# Altium footprint library 1-10V_PIR_V1.0.PcbLib: 6 footprints
Each footprint in its own frame and in the unit in brackets; x right, y up, seen from the top. Pads: shape width x height; smd on the part's side, far side on the other; paste and mask are expansions set on the pad; w line width, h text height; cw(c..) or ccw(c..) is an arc to the next point about the centre after c.
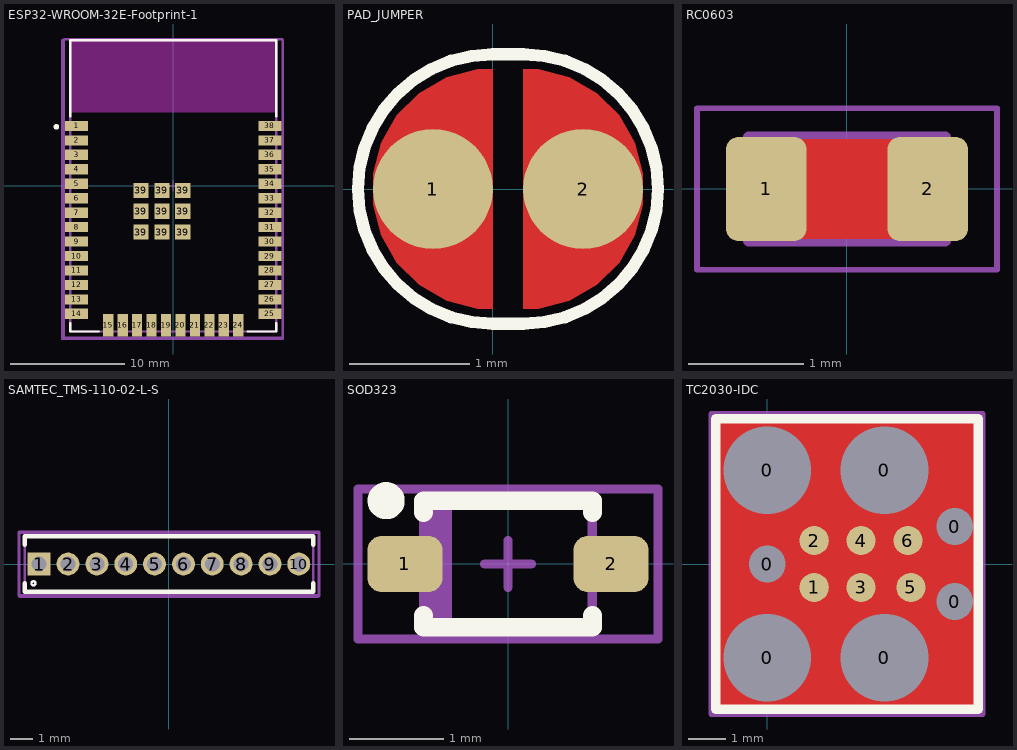
[diagram p0: the footprints below, top view; thin cyan lines are the x and y axes]

## ESP32-WROOM-32E-Footprint-1 [mm]
height 0.7
pads (47):
  rect 2x0.9 smd paste+0 mask+0: 1(-8.5,5.26) 2(-8.5,3.99) 3(-8.5,2.72) 4(-8.5,1.45) 5(-8.5,0.18) 6(-8.5,-1.09) 7(-8.5,-2.36) 8(-8.5,-3.63) 9(-8.5,-4.9) 10(-8.5,-6.17) 11(-8.5,-7.44) 12(-8.5,-8.71) 13(-8.5,-9.98) 14(-8.5,-11.25) 25(8.5,-11.25) 26(8.5,-9.98) 27(8.5,-8.71) 28(8.5,-7.44) 29(8.5,-6.17) 30(8.5,-4.9) 31(8.5,-3.63) 32(8.5,-2.36) 33(8.5,-1.09) 34(8.5,0.18) 35(8.5,1.45) 36(8.5,2.72) 37(8.5,3.99) 38(8.5,5.26)
  rect 0.9x2 smd paste+0 mask+0: 15(-5.715,-12.25) 16(-4.445,-12.25) 17(-3.175,-12.25) 18(-1.905,-12.25) 19(-0.635,-12.25) 20(0.635,-12.25) 21(1.905,-12.25) 22(3.175,-12.25) 23(4.445,-12.25) 24(5.715,-12.25)
  rect 1.33x1.33 smd paste+0 mask+0: 39(-2.835,-4.075) 39(-2.835,-2.24) 39(-2.835,-0.405) 39(-1,-4.075) 39(-1,-2.24) 39(-1,-0.405) 39(0.835,-4.075) 39(0.835,-2.24) 39(0.835,-0.405)
Top Overlay:
  circle w0.25: c-10.275,5.185 r0.125
  lines w0.2: -9.05,-12.075 -9.05,-12.8 -6.54,-12.8 ; -9.05,6.085 -9.05,12.8 9.05,12.8 9.05,6.085 ; 6.54,-12.8 9.05,-12.8 9.05,-12.075
Keep-Out Layer:
  rectangle: -9,6.45 9,12.75
Mechanical 12:
  lines w0.2: -9.05,-12.8 9.05,-12.8 9.05,12.8 -9.05,12.8 -9.05,-12.8
Mechanical 13:
  lines w0.15: -9.779,-13.462 9.652,-13.462 9.652,12.827 -9.779,12.827 -9.779,-13.462
  text ".Designator" at -3.787,3.719 h0.8
Mechanical 15:
  lines w0.1: -0.5,0 0.5,0 ; 0,-0.5 0,0.5
  lines w0.2: -9.6,-13.35 9.6,-13.35 9.6,12.9 -9.6,12.9 -9.6,-13.35
3D body "UNK_Espressif_Systems_ESP32-WROOM-32D_eec.STEP": height 0.25, standoff 0, extent -9.6,-13.35 9.6,12.9

## PAD_JUMPER [mm] "SOLDER BRIDGE JUMPER"
pads (2):
  round 1 smd mask-15: 1(-0.5,0) 2(0.754,0)
Top Layer:
  region: 0.254,-1 0.254,1 0.386,1 0.64,0.932 0.868,0.8 1.054,0.614 1.186,0.386 1.254,0.132 1.254,-0.132 1.186,-0.386 1.054,-0.614 0.868,-0.8 0.64,-0.932 0.386,-1
  region: 0,-1 -0.132,-1 -0.386,-0.932 -0.614,-0.8 -0.8,-0.614 -0.932,-0.386 -1,-0.132 -1,0.132 -0.932,0.386 -0.8,0.614 -0.614,0.8 -0.386,0.932 -0.132,1 0,1
Top Overlay:
  lines w0.102: 0,-1.125 cw(c0,0) 0,1.125 0.254,1.125 cw(c0.254,0) 0.254,-1.125 0,-1.125
Top Solder:
  rectangle: 0.025,-1.093 0.229,1.091

## RC0603 [mm] "Chip Resistor, 2-Leads, Body 1.6x0.8mm, IPC Medium Density"
height 0.55
pads (2):
  rrect30% 0.7x0.9 smd: 1(-0.7,0) 2(0.7,0)
Top Layer:
  pour cut-out: -0.483,0.432 -0.483,-0.432 0.483,-0.432 0.483,0.432
Mechanical 13:
  lines w0.1: -0.85,-0.45 0.85,-0.45 0.85,0.45 -0.85,0.45 -0.85,-0.45
  text ".Designator" at 0.634,0.242 h0.5
Mechanical 15:
  lines w0.05: -1.3,-0.7 1.3,-0.7 1.3,0.7 -1.3,0.7 -1.3,-0.7
  lines w0.1: -0.45,0 0.45,0 ; 0,-0.45 0,0.45
3D body "User Library-RES_0603L.STEP": height 0.49, standoff 0.02, extent -0.8,-0.4 0.8,0.4

## SAMTEC_TMS-110-02-L-S [mm]
pads (10):
  rect 1.01x1.01 hole 0.66: 1(-5.715,0)
  round 1.01 hole 0.66: 2(-4.445,0) 3(-3.175,0) 4(-1.905,0) 5(-0.635,0) 6(0.635,0) 7(1.905,0) 8(3.175,0) 9(4.445,0) 10(5.715,0)
Top Overlay:
  circle w0.102: c-5.969,-0.852 r0.089
  lines w0.2: -6.35,-0.855 -6.35,-1.219 6.35,-1.219 6.35,-0.855 ; -6.35,0.855 -6.35,1.219 6.35,1.219 6.35,0.855
Mechanical 13:
  circle w0.102: c-5.969,-0.852 r0.089
  lines w0.1: -6.35,-1.219 6.35,-1.219 6.35,1.219 -6.35,1.219 -6.35,-1.219
  lines w0.15: -6.604,-1.397 6.604,-1.397 6.604,1.397 -6.604,1.397 -6.604,-1.397
  text ".Designator" at -2.898,-0.345 h0.8
Mechanical 15:
  lines w0.05: -6.6,-1.469 -6.6,1.469 6.6,1.469 6.6,-1.469 -6.6,-1.469
3D body "TMS-110-02-L-S.stp": height 5.08, standoff -3.05, extent -6.223,-1.219 6.477,1.219

## SOD323 [mm] "Molded Diode, 2-Leads, Body 3x1.5mm, IPC Medium Density"
height 1.2
pads (2):
  rrect50% 0.8x0.6 smd: 1(-1.1,0) 2(1.1,0)
Top Overlay:
  circle w0.254: c-1.3,0.675 r0.071
  lines w0.2: -0.9,-0.55 -0.9,-0.675 0.9,-0.675 0.9,-0.55 ; -0.9,0.55 -0.9,0.675 0.9,0.675 0.9,0.55
Mechanical 13:
  rectangle: -0.9,-0.675 -0.597,0.675
  lines w0.1: -0.9,-0.675 -0.9,0.675 0.9,0.675 0.9,-0.675 -0.9,-0.675
  text ".Designator" at 0.549,0.332 h0.7
Mechanical 15:
  lines w0.1: -0.25,0 0.25,0 ; 0,-0.25 0,0.25 ; -1.6,-0.8 -1.6,0.8 1.6,0.8 1.6,-0.8 -1.6,-0.8
3D body "SW3dPS-SOD-323.STEP": height 1.1, standoff 0, extent -1.3,-0.675 1.3,0.675

## TC2030-IDC [mm] "Tag-Connect 6-Pin with Legs (PN# TC2030-IDC-NL)"
pads (13):
  round 2.3 hole 2.375 unplated: 0(0,-2.54) 0(0,2.54) 0(3.175,-2.54) 0(3.175,2.54)
  round 0.9 hole 0.995 unplated: 0(0,0) 0(5.08,-1.016) 0(5.08,1.016)
  round 0.79 smd paste-0.39: 1(1.27,-0.635) 2(1.27,0.635) 3(2.54,-0.635) 4(2.54,0.635) 5(3.89,-0.635) 6(3.81,0.635)
Top Layer:
  pour cut-out: -1.27,-3.81 5.588,-3.81 5.588,3.81 -1.27,3.81 5.588,3.81 -1.27,3.81
Top Overlay:
  lines w0.254: -1.397,-3.937 -1.397,3.937 5.715,3.937 5.715,-3.937 -1.397,-3.937
Mechanical 29:
  lines w0.15: -1.524,-4.064 -1.524,4.064 5.842,4.064 5.842,-4.064 -1.524,-4.064
  text ".Designator" at -1.016,-1.016 h0.8